# Altium footprint library 4-1437565-2.PcbLib: 1 footprints
Each footprint in its own frame and in the unit in brackets; x right, y up, seen from the top. Pads: shape width x height; smd on the part's side, far side on the other; paste and mask are expansions set on the pad; w line width, h text height; cw(c..) or ccw(c..) is an arc to the next point about the centre after c.
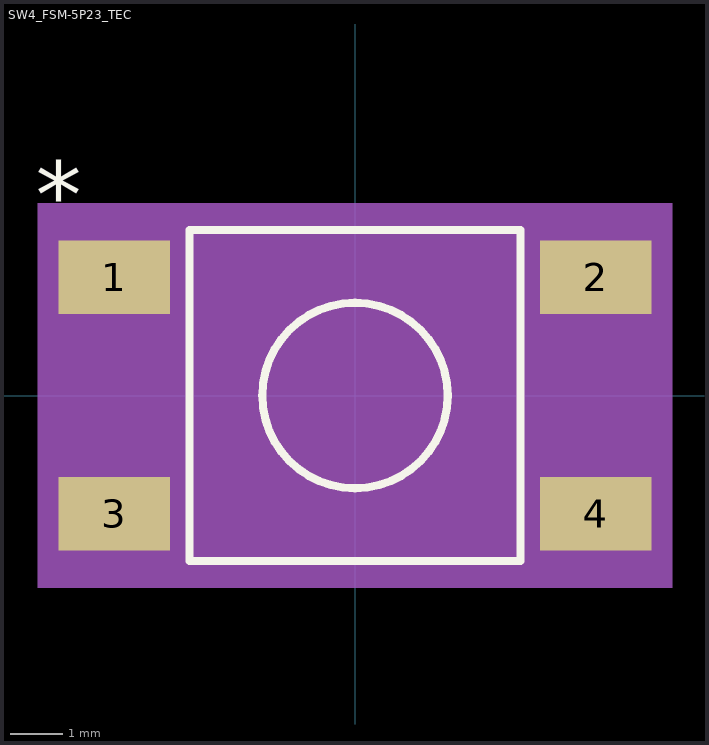
[diagram p0: the footprint, top view; thin cyan lines are the x and y axes]

## SW4_FSM-5P23_TEC [mil]
pads (4):
  rect 83x55 smd paste+0 mask+0: 1(-179,88) 2(179,88) 3(-179,-88) 4(179,-88)
Top Overlay:
  circle w6: c0,0 r69
  lines w6: -123,-123 -123,123 123,123 123,-123 -123,-123
  text "*" at -237.5,125 h50
Mechanical 5:
  region: 236,-143 -236,-143 -236,143 236,143
Mechanical 13:
  circle w0: c0,0 r69
  lines w1: -197,-102.5 -118,-102.5 -118,-74.5 -197,-74.5 -197,-102.5 ; -197,74.5 -118,74.5 -118,102.5 -197,102.5 -197,74.5 ; -118,-118 -118,118 118,118 118,-118 -118,-118 ; 118,-102.5 197,-102.5 197,-74.5 118,-74.5 118,-102.5 ; 118,74.5 197,74.5 197,102.5 118,102.5 118,74.5
  text "*" at -115.5,53.5 h50
Mechanical 15:
  region: 128,-128 -128,-128 -128,-123.5 -230.5,-123.5 -230.5,123.5 -128,123.5 -128,128 128,128 128,123.5 230.5,123.5 230.5,-123.5 128,-123.5
  lines w6: -230.5,-123.5 -230.5,123.5 -128,123.5 -128,128 128,128 128,123.5 230.5,123.5 230.5,-123.5 128,-123.5 128,-128 -128,-128 -128,-123.5 -230.5,-123.5
3D body: height 10, standoff 0, extent 0,0 10,10